# Altium integrated library TI Power Management Linear Regulator Dual Channel LDO.IntLib: 299 symbols (part 8 of 15)
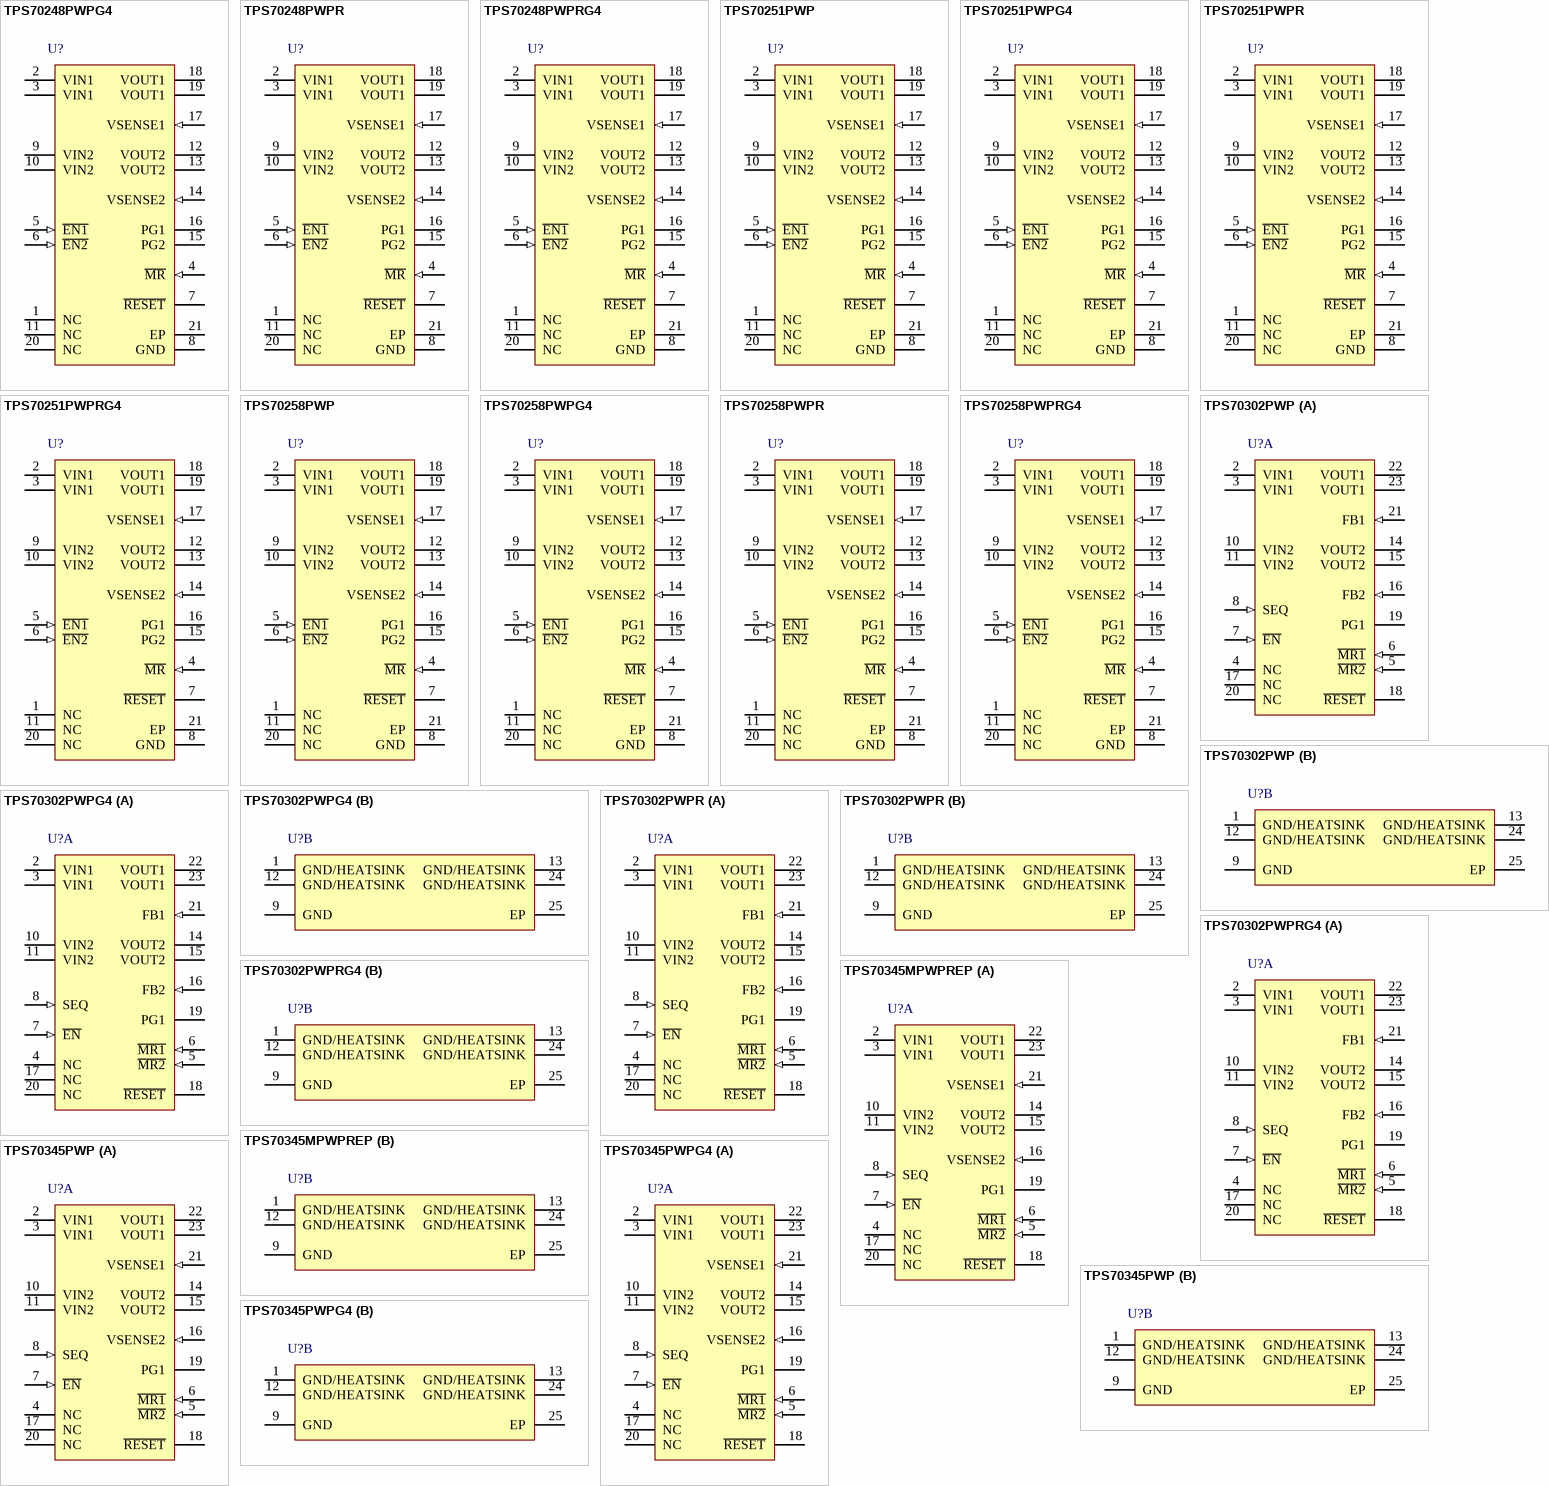
[diagram p18: symbols TPS70248PWPG4 to TPS70345PWPG4]

## TPS70345PWP
designator U?
Dual Output LDO, 1 A, Fixed 3.3, 1.2 V Output, 2.7 to 6 V Input, 24-pin HTSSOP (PWP), -40 to 125 degC, Green (RoHS & no Sb/Br); Manufacturer: Texas Instruments; PartNumber: TPS70345PWP; Iout(Max)(A): 1; Iout2(A): 2; Iq(Typ)(mA): 0.18; SubFamily: Dual Channel LDO; Vdo(Typ)(mV): 160; Vin(Max)(V): 6; Vin(Min)(V): 2.7; Vout(Max)(V): 3.3; Vout2(Max)(V): 1.2; DatasheetVersion: SLVS285H; PackageVersion: 4073225-5/I; PackageReference: PWP24-4210X2010TP; PackageDescription: 24-Pin Plastic Small Outline, Body 4.4 x 7.8 mm, Pitch 0.65 mm; Supplier 1: Digi-Key; Supplier Part Number 1: 296-8022-5-ND; Supplier 2: Newark; Supplier Part Number 2: 77C0761; Supplier 3: Mouser; Supplier Part Number 3: 595-TPS70345PWP; Eco-Plan: Green (RoHS & no Sb/Br); Fixed Output Options(V): 3.3, 1.2; Vout(Min)(V): 3.3; Vout2(Min)(V): 1.2; Mounting Technology: Surface Mount; Code_JEDEC: MO-153; ComponentLink1Description: Manufacturer URL; ComponentLink1URL: http://www.ti.com/; ComponentLink2Description: Datasheet; ComponentLink2URL: http://www.ti.com/general/docs/lit/getliterature.tsp?genericPartNumber=TPS70345&fileType=pdf; ComponentLink3Description: Package Specification; ComponentLink3URL: http://www.ti.com/litv/pdf/mpds372
footprint TI-PWP24-4210X2010TP_N (SOP, 24-Leads, Body 7.8x4.4mm, Pitch 0.65mm, Thermal Pad 4.205X2.005mm, IPC Medium Density)
footprint TI-PWP24-4210X2010TP_L (SOP, 24-Leads, Body 7.8x4.4mm, Pitch 0.65mm, Thermal Pad 4.205X2.005mm, IPC High Density)
footprint TI-PWP24-4210X2010TP_M (SOP, 24-Leads, Body 7.8x4.4mm, Pitch 0.65mm, Thermal Pad 4.205X2.005mm, IPC Low Density)
part A pins: 2 VIN1 (power) "Input voltage of regulator 1", 3 VIN1 (power) "Input voltage of regulator 1", 4 NC "No connection", 5 ~{MR2} (in) "Manual reset input 2, active low, pulled up internally", 6 ~{MR1} (in) "Manual reset input 1, active low, pulled up internally", 7 ~{EN} (in) "Active low enable", 8 SEQ (in) "Power-up sequence control: SEQ = High, VOUT2 powers up first; SEQ = Low, VOUT1 powers up first. SEQ terminal pulled up internally.", 10 VIN2 (power) "Input voltage of regulator 2", 11 VIN2 (power) "Input voltage of regulator 2", 14 VOUT2 (power) "Output voltage of regulator 2", 15 VOUT2 (power) "Output voltage of regulator 2", 16 VSENSE2 (in) "Regulator 2 output voltage sense", 17 NC "No connection", 18 ~{RESET} (hiz) "Open drain output, SVS (power-on reset) signal, active low", 19 PG1 (hiz) "Open drain output, low when VOUT1 voltage is less than 95% of the nominal regulated voltage", 20 NC "No connection", 21 VSENSE1 (in) "Regulator 1 output voltage sense", 22 VOUT1 (power) "Output voltage of regulator 1", 23 VOUT1 (power) "Output voltage of regulator 1"
part B pins: 1 GND/HEATSINK (power) "Ground/heatsink", 9 GND (power) "Regulator ground", 12 GND/HEATSINK (power) "Ground/heatsink", 13 GND/HEATSINK (power) "Ground/heatsink", 24 GND/HEATSINK (power) "Ground/heatsink", 25 EP "Exposed Thermal Pad"

## TPS70345PWPG4
designator U?
Dual Output LDO, 1 A, Fixed 3.3, 1.2 V Output, 2.7 to 6 V Input, 24-pin HTSSOP (PWP), -40 to 125 degC, Green (RoHS & no Sb/Br); Manufacturer: Texas Instruments; PartNumber: TPS70345PWPG4; Iout(Max)(A): 1; Iout2(A): 2; Iq(Typ)(mA): 0.18; SubFamily: Dual Channel LDO; Vdo(Typ)(mV): 160; Vin(Max)(V): 6; Vin(Min)(V): 2.7; Vout(Max)(V): 3.3; Vout2(Max)(V): 1.2; DatasheetVersion: SLVS285H; PackageVersion: 4073225-5/I; PackageReference: PWP24-4210X2010TP; PackageDescription: 24-Pin Plastic Small Outline, Body 4.4 x 7.8 mm, Pitch 0.65 mm; Supplier 1: Digi-Key; Supplier Part Number 1: TPS70345PWPG4-ND; Supplier 2: Newark; Supplier Part Number 2: 99K4430; Supplier 3: Mouser; Supplier Part Number 3: 595-TPS70345PWPG4; Eco-Plan: Green (RoHS & no Sb/Br); Fixed Output Options(V): 3.3, 1.2; Vout(Min)(V): 3.3; Vout2(Min)(V): 1.2; Mounting Technology: Surface Mount; Code_JEDEC: MO-153; ComponentLink1Description: Manufacturer URL; ComponentLink1URL: http://www.ti.com/; ComponentLink2Description: Datasheet; ComponentLink2URL: http://www.ti.com/general/docs/lit/getliterature.tsp?genericPartNumber=TPS70345&fileType=pdf; ComponentLink3Description: Package Specification; ComponentLink3URL: http://www.ti.com/litv/pdf/mpds372
footprint TI-PWP24-4210X2010TP_N (SOP, 24-Leads, Body 7.8x4.4mm, Pitch 0.65mm, Thermal Pad 4.205X2.005mm, IPC Medium Density)
footprint TI-PWP24-4210X2010TP_L (SOP, 24-Leads, Body 7.8x4.4mm, Pitch 0.65mm, Thermal Pad 4.205X2.005mm, IPC High Density)
footprint TI-PWP24-4210X2010TP_M (SOP, 24-Leads, Body 7.8x4.4mm, Pitch 0.65mm, Thermal Pad 4.205X2.005mm, IPC Low Density)
part A pins: 2 VIN1 (power) "Input voltage of regulator 1", 3 VIN1 (power) "Input voltage of regulator 1", 4 NC "No connection", 5 ~{MR2} (in) "Manual reset input 2, active low, pulled up internally", 6 ~{MR1} (in) "Manual reset input 1, active low, pulled up internally", 7 ~{EN} (in) "Active low enable", 8 SEQ (in) "Power-up sequence control: SEQ = High, VOUT2 powers up first; SEQ = Low, VOUT1 powers up first. SEQ terminal pulled up internally.", 10 VIN2 (power) "Input voltage of regulator 2", 11 VIN2 (power) "Input voltage of regulator 2", 14 VOUT2 (power) "Output voltage of regulator 2", 15 VOUT2 (power) "Output voltage of regulator 2", 16 VSENSE2 (in) "Regulator 2 output voltage sense", 17 NC "No connection", 18 ~{RESET} (hiz) "Open drain output, SVS (power-on reset) signal, active low", 19 PG1 (hiz) "Open drain output, low when VOUT1 voltage is less than 95% of the nominal regulated voltage", 20 NC "No connection", 21 VSENSE1 (in) "Regulator 1 output voltage sense", 22 VOUT1 (power) "Output voltage of regulator 1", 23 VOUT1 (power) "Output voltage of regulator 1"
part B pins: 1 GND/HEATSINK (power) "Ground/heatsink", 9 GND (power) "Regulator ground", 12 GND/HEATSINK (power) "Ground/heatsink", 13 GND/HEATSINK (power) "Ground/heatsink", 24 GND/HEATSINK (power) "Ground/heatsink", 25 EP "Exposed Thermal Pad"

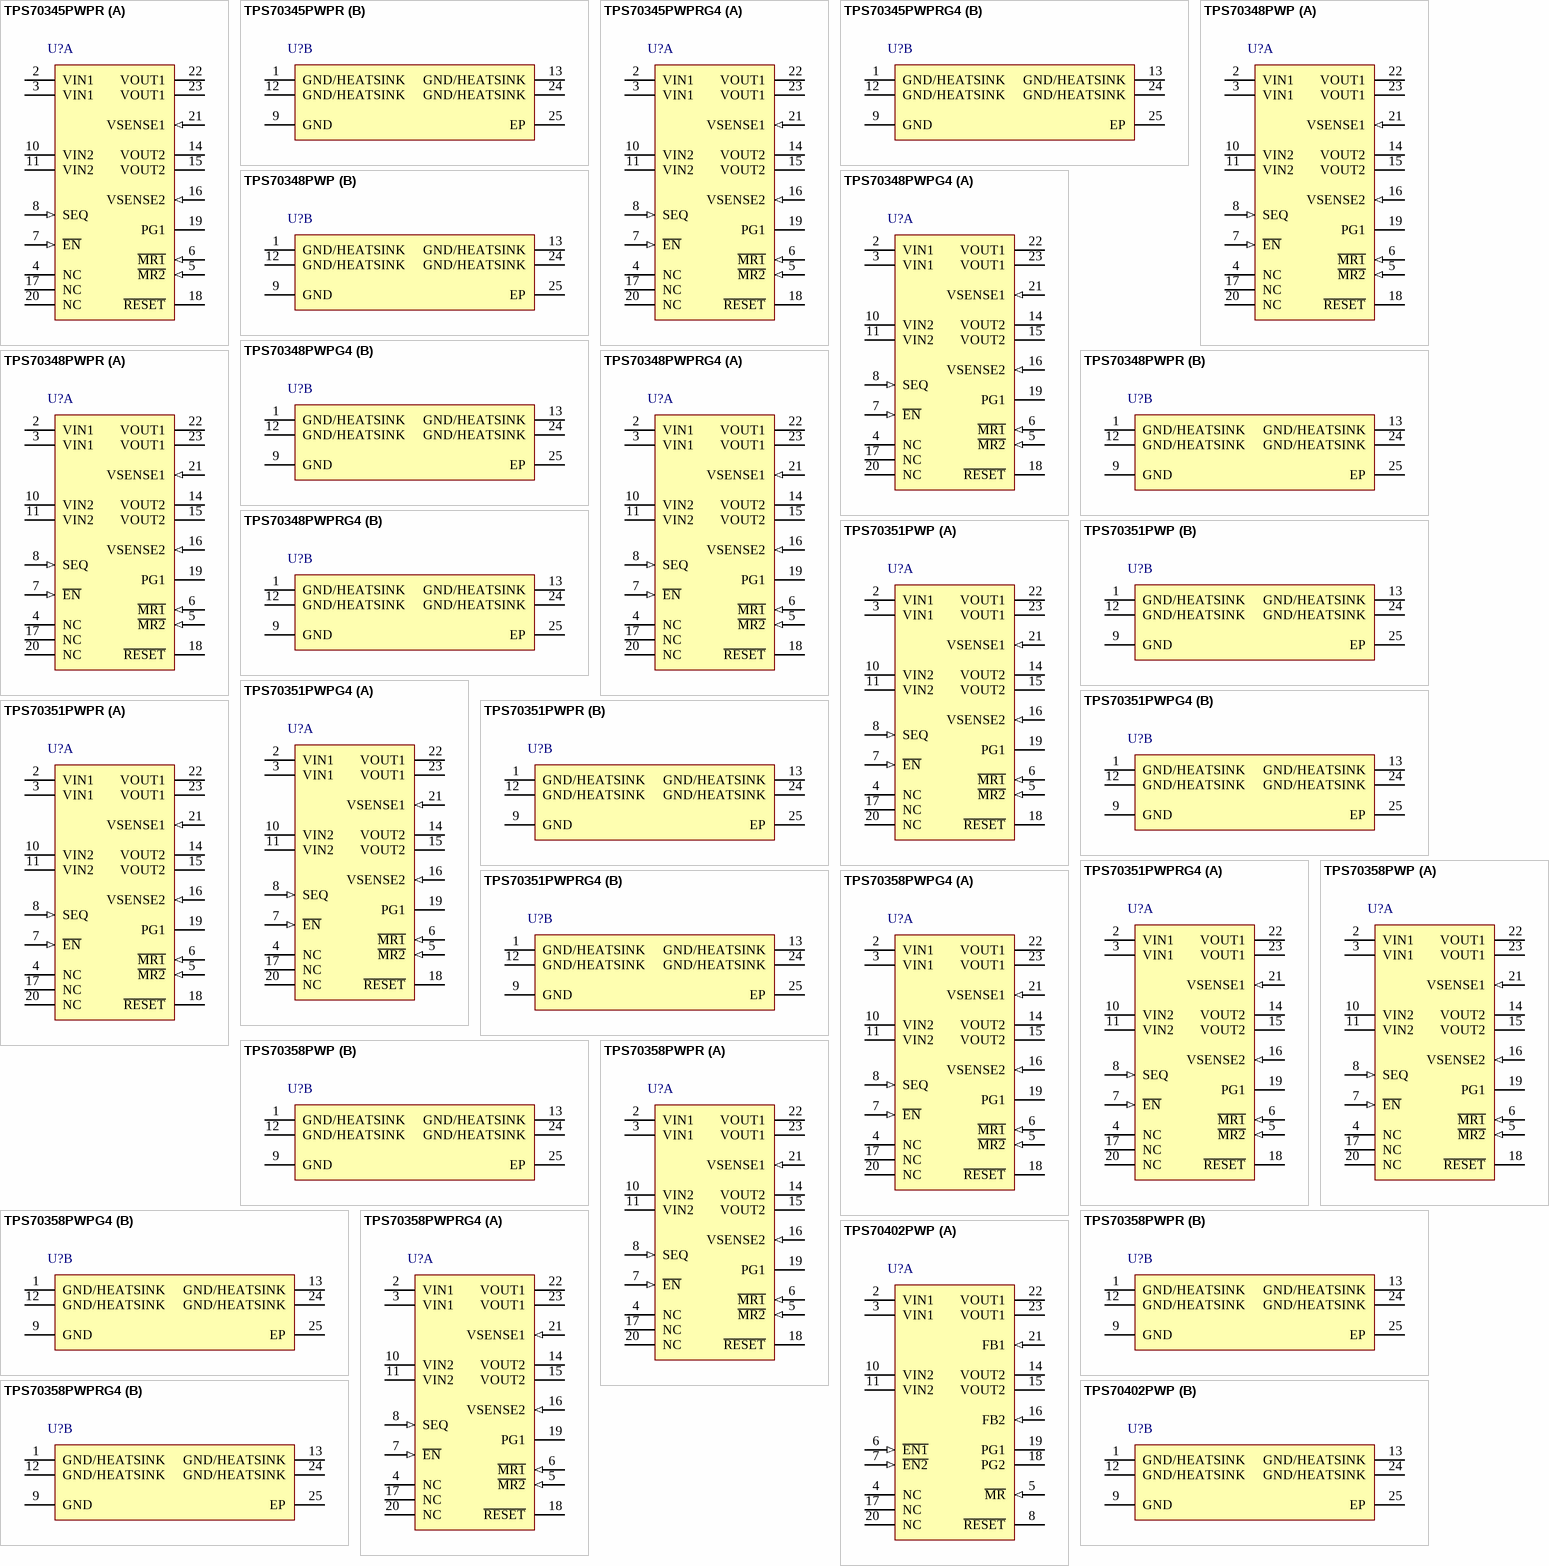
[diagram p6: symbols TPS70345PWPR to TPS70402PWP]

## TPS70345PWPR
designator U?
Dual Output LDO, 1 A, Fixed 3.3, 1.2 V Output, 2.7 to 6 V Input, 24-pin HTSSOP (PWP), -40 to 125 degC, Green (RoHS & no Sb/Br); Manufacturer: Texas Instruments; PartNumber: TPS70345PWPR; Iout(Max)(A): 1; Iout2(A): 2; Iq(Typ)(mA): 0.18; SubFamily: Dual Channel LDO; Vdo(Typ)(mV): 160; Vin(Max)(V): 6; Vin(Min)(V): 2.7; Vout(Max)(V): 3.3; Vout2(Max)(V): 1.2; DatasheetVersion: SLVS285H; PackageVersion: 4073225-5/I; PackageReference: PWP24-4210X2010TP; PackageDescription: 24-Pin Plastic Small Outline, Body 4.4 x 7.8 mm, Pitch 0.65 mm; Supplier 1: Digi-Key; Supplier Part Number 1: TPS70345PWPR-ND; Supplier 2: Mouser; Supplier Part Number 2: 595-TPS70345PWPR; Eco-Plan: Green (RoHS & no Sb/Br); Fixed Output Options(V): 3.3, 1.2; Vout(Min)(V): 3.3; Vout2(Min)(V): 1.2; Mounting Technology: Surface Mount; Code_JEDEC: MO-153; ComponentLink1Description: Manufacturer URL; ComponentLink1URL: http://www.ti.com/; ComponentLink2Description: Datasheet; ComponentLink2URL: http://www.ti.com/general/docs/lit/getliterature.tsp?genericPartNumber=TPS70345&fileType=pdf; ComponentLink3Description: Package Specification; ComponentLink3URL: http://www.ti.com/litv/pdf/mpds372
footprint TI-PWP24-4210X2010TP_N (SOP, 24-Leads, Body 7.8x4.4mm, Pitch 0.65mm, Thermal Pad 4.205X2.005mm, IPC Medium Density)
footprint TI-PWP24-4210X2010TP_L (SOP, 24-Leads, Body 7.8x4.4mm, Pitch 0.65mm, Thermal Pad 4.205X2.005mm, IPC High Density)
footprint TI-PWP24-4210X2010TP_M (SOP, 24-Leads, Body 7.8x4.4mm, Pitch 0.65mm, Thermal Pad 4.205X2.005mm, IPC Low Density)
part A pins: 2 VIN1 (power) "Input voltage of regulator 1", 3 VIN1 (power) "Input voltage of regulator 1", 4 NC "No connection", 5 ~{MR2} (in) "Manual reset input 2, active low, pulled up internally", 6 ~{MR1} (in) "Manual reset input 1, active low, pulled up internally", 7 ~{EN} (in) "Active low enable", 8 SEQ (in) "Power-up sequence control: SEQ = High, VOUT2 powers up first; SEQ = Low, VOUT1 powers up first. SEQ terminal pulled up internally.", 10 VIN2 (power) "Input voltage of regulator 2", 11 VIN2 (power) "Input voltage of regulator 2", 14 VOUT2 (power) "Output voltage of regulator 2", 15 VOUT2 (power) "Output voltage of regulator 2", 16 VSENSE2 (in) "Regulator 2 output voltage sense", 17 NC "No connection", 18 ~{RESET} (hiz) "Open drain output, SVS (power-on reset) signal, active low", 19 PG1 (hiz) "Open drain output, low when VOUT1 voltage is less than 95% of the nominal regulated voltage", 20 NC "No connection", 21 VSENSE1 (in) "Regulator 1 output voltage sense", 22 VOUT1 (power) "Output voltage of regulator 1", 23 VOUT1 (power) "Output voltage of regulator 1"
part B pins: 1 GND/HEATSINK (power) "Ground/heatsink", 9 GND (power) "Regulator ground", 12 GND/HEATSINK (power) "Ground/heatsink", 13 GND/HEATSINK (power) "Ground/heatsink", 24 GND/HEATSINK (power) "Ground/heatsink", 25 EP "Exposed Thermal Pad"

## TPS70345PWPRG4
designator U?
Dual Output LDO, 1 A, Fixed 3.3, 1.2 V Output, 2.7 to 6 V Input, 24-pin HTSSOP (PWP), -40 to 125 degC, Green (RoHS & no Sb/Br); Manufacturer: Texas Instruments; PartNumber: TPS70345PWPRG4; Iout(Max)(A): 1; Iout2(A): 2; Iq(Typ)(mA): 0.18; SubFamily: Dual Channel LDO; Vdo(Typ)(mV): 160; Vin(Max)(V): 6; Vin(Min)(V): 2.7; Vout(Max)(V): 3.3; Vout2(Max)(V): 1.2; DatasheetVersion: SLVS285H; PackageVersion: 4073225-5/I; PackageReference: PWP24-4210X2010TP; PackageDescription: 24-Pin Plastic Small Outline, Body 4.4 x 7.8 mm, Pitch 0.65 mm; Supplier 1: Digi-Key; Supplier Part Number 1: TPS70345PWPRG4-ND; Supplier 2: Mouser; Supplier Part Number 2: 595-TPS70345PWPRG4; Eco-Plan: Green (RoHS & no Sb/Br); Fixed Output Options(V): 3.3, 1.2; Vout(Min)(V): 3.3; Vout2(Min)(V): 1.2; Mounting Technology: Surface Mount; Code_JEDEC: MO-153; ComponentLink1Description: Manufacturer URL; ComponentLink1URL: http://www.ti.com/; ComponentLink2Description: Datasheet; ComponentLink2URL: http://www.ti.com/general/docs/lit/getliterature.tsp?genericPartNumber=TPS70345&fileType=pdf; ComponentLink3Description: Package Specification; ComponentLink3URL: http://www.ti.com/litv/pdf/mpds372
footprint TI-PWP24-4210X2010TP_N (SOP, 24-Leads, Body 7.8x4.4mm, Pitch 0.65mm, Thermal Pad 4.205X2.005mm, IPC Medium Density)
footprint TI-PWP24-4210X2010TP_L (SOP, 24-Leads, Body 7.8x4.4mm, Pitch 0.65mm, Thermal Pad 4.205X2.005mm, IPC High Density)
footprint TI-PWP24-4210X2010TP_M (SOP, 24-Leads, Body 7.8x4.4mm, Pitch 0.65mm, Thermal Pad 4.205X2.005mm, IPC Low Density)
part A pins: 2 VIN1 (power) "Input voltage of regulator 1", 3 VIN1 (power) "Input voltage of regulator 1", 4 NC "No connection", 5 ~{MR2} (in) "Manual reset input 2, active low, pulled up internally", 6 ~{MR1} (in) "Manual reset input 1, active low, pulled up internally", 7 ~{EN} (in) "Active low enable", 8 SEQ (in) "Power-up sequence control: SEQ = High, VOUT2 powers up first; SEQ = Low, VOUT1 powers up first. SEQ terminal pulled up internally.", 10 VIN2 (power) "Input voltage of regulator 2", 11 VIN2 (power) "Input voltage of regulator 2", 14 VOUT2 (power) "Output voltage of regulator 2", 15 VOUT2 (power) "Output voltage of regulator 2", 16 VSENSE2 (in) "Regulator 2 output voltage sense", 17 NC "No connection", 18 ~{RESET} (hiz) "Open drain output, SVS (power-on reset) signal, active low", 19 PG1 (hiz) "Open drain output, low when VOUT1 voltage is less than 95% of the nominal regulated voltage", 20 NC "No connection", 21 VSENSE1 (in) "Regulator 1 output voltage sense", 22 VOUT1 (power) "Output voltage of regulator 1", 23 VOUT1 (power) "Output voltage of regulator 1"
part B pins: 1 GND/HEATSINK (power) "Ground/heatsink", 9 GND (power) "Regulator ground", 12 GND/HEATSINK (power) "Ground/heatsink", 13 GND/HEATSINK (power) "Ground/heatsink", 24 GND/HEATSINK (power) "Ground/heatsink", 25 EP "Exposed Thermal Pad"

## TPS70348PWP
designator U?
Dual Output LDO, 1 A, Fixed 3.3, 1.5 V Output, 2.7 to 6 V Input, 24-pin HTSSOP (PWP), -40 to 125 degC, Green (RoHS & no Sb/Br); Manufacturer: Texas Instruments; PartNumber: TPS70348PWP; Iout(Max)(A): 1; Iout2(A): 2; Iq(Typ)(mA): 0.18; SubFamily: Dual Channel LDO; Vdo(Typ)(mV): 160; Vin(Max)(V): 6; Vin(Min)(V): 2.7; Vout(Max)(V): 3.3; Vout2(Max)(V): 1.5; DatasheetVersion: SLVS285H; PackageVersion: 4073225-5/I; PackageReference: PWP24-4210X2010TP; PackageDescription: 24-Pin Plastic Small Outline, Body 4.4 x 7.8 mm, Pitch 0.65 mm; Supplier 1: Digi-Key; Supplier Part Number 1: 296-8023-5-ND; Supplier 2: Newark; Supplier Part Number 2: 77C0763; Supplier 3: Mouser; Supplier Part Number 3: 595-TPS70348PWP; Eco-Plan: Green (RoHS & no Sb/Br); Fixed Output Options(V): 3.3, 1.5; Vout(Min)(V): 3.3; Vout2(Min)(V): 1.5; Mounting Technology: Surface Mount; Code_JEDEC: MO-153; ComponentLink1Description: Manufacturer URL; ComponentLink1URL: http://www.ti.com/; ComponentLink2Description: Datasheet; ComponentLink2URL: http://www.ti.com/general/docs/lit/getliterature.tsp?genericPartNumber=TPS70348&fileType=pdf; ComponentLink3Description: Package Specification; ComponentLink3URL: http://www.ti.com/litv/pdf/mpds372
footprint TI-PWP24-4210X2010TP_N (SOP, 24-Leads, Body 7.8x4.4mm, Pitch 0.65mm, Thermal Pad 4.205X2.005mm, IPC Medium Density)
footprint TI-PWP24-4210X2010TP_L (SOP, 24-Leads, Body 7.8x4.4mm, Pitch 0.65mm, Thermal Pad 4.205X2.005mm, IPC High Density)
footprint TI-PWP24-4210X2010TP_M (SOP, 24-Leads, Body 7.8x4.4mm, Pitch 0.65mm, Thermal Pad 4.205X2.005mm, IPC Low Density)
part A pins: 2 VIN1 (power) "Input voltage of regulator 1", 3 VIN1 (power) "Input voltage of regulator 1", 4 NC "No connection", 5 ~{MR2} (in) "Manual reset input 2, active low, pulled up internally", 6 ~{MR1} (in) "Manual reset input 1, active low, pulled up internally", 7 ~{EN} (in) "Active low enable", 8 SEQ (in) "Power-up sequence control: SEQ = High, VOUT2 powers up first; SEQ = Low, VOUT1 powers up first. SEQ terminal pulled up internally.", 10 VIN2 (power) "Input voltage of regulator 2", 11 VIN2 (power) "Input voltage of regulator 2", 14 VOUT2 (power) "Output voltage of regulator 2", 15 VOUT2 (power) "Output voltage of regulator 2", 16 VSENSE2 (in) "Regulator 2 output voltage sense", 17 NC "No connection", 18 ~{RESET} (hiz) "Open drain output, SVS (power-on reset) signal, active low", 19 PG1 (hiz) "Open drain output, low when VOUT1 voltage is less than 95% of the nominal regulated voltage", 20 NC "No connection", 21 VSENSE1 (in) "Regulator 1 output voltage sense", 22 VOUT1 (power) "Output voltage of regulator 1", 23 VOUT1 (power) "Output voltage of regulator 1"
part B pins: 1 GND/HEATSINK (power) "Ground/heatsink", 9 GND (power) "Regulator ground", 12 GND/HEATSINK (power) "Ground/heatsink", 13 GND/HEATSINK (power) "Ground/heatsink", 24 GND/HEATSINK (power) "Ground/heatsink", 25 EP "Exposed Thermal Pad"

## TPS70348PWPG4
designator U?
Dual Output LDO, 1 A, Fixed 3.3, 1.5 V Output, 2.7 to 6 V Input, 24-pin HTSSOP (PWP), -40 to 125 degC, Green (RoHS & no Sb/Br); Manufacturer: Texas Instruments; PartNumber: TPS70348PWPG4; Iout(Max)(A): 1; Iout2(A): 2; Iq(Typ)(mA): 0.18; SubFamily: Dual Channel LDO; Vdo(Typ)(mV): 160; Vin(Max)(V): 6; Vin(Min)(V): 2.7; Vout(Max)(V): 3.3; Vout2(Max)(V): 1.5; DatasheetVersion: SLVS285H; PackageVersion: 4073225-5/I; PackageReference: PWP24-4210X2010TP; PackageDescription: 24-Pin Plastic Small Outline, Body 4.4 x 7.8 mm, Pitch 0.65 mm; Supplier 1: Digi-Key; Supplier Part Number 1: TPS70348PWPG4-ND; Supplier 2: Mouser; Supplier Part Number 2: 595-TPS70348PWPG4; Eco-Plan: Green (RoHS & no Sb/Br); Fixed Output Options(V): 3.3, 1.5; Vout(Min)(V): 3.3; Vout2(Min)(V): 1.5; Mounting Technology: Surface Mount; Code_JEDEC: MO-153; ComponentLink1Description: Manufacturer URL; ComponentLink1URL: http://www.ti.com/; ComponentLink2Description: Datasheet; ComponentLink2URL: http://www.ti.com/general/docs/lit/getliterature.tsp?genericPartNumber=TPS70348&fileType=pdf; ComponentLink3Description: Package Specification; ComponentLink3URL: http://www.ti.com/litv/pdf/mpds372
footprint TI-PWP24-4210X2010TP_N (SOP, 24-Leads, Body 7.8x4.4mm, Pitch 0.65mm, Thermal Pad 4.205X2.005mm, IPC Medium Density)
footprint TI-PWP24-4210X2010TP_L (SOP, 24-Leads, Body 7.8x4.4mm, Pitch 0.65mm, Thermal Pad 4.205X2.005mm, IPC High Density)
footprint TI-PWP24-4210X2010TP_M (SOP, 24-Leads, Body 7.8x4.4mm, Pitch 0.65mm, Thermal Pad 4.205X2.005mm, IPC Low Density)
part A pins: 2 VIN1 (power) "Input voltage of regulator 1", 3 VIN1 (power) "Input voltage of regulator 1", 4 NC "No connection", 5 ~{MR2} (in) "Manual reset input 2, active low, pulled up internally", 6 ~{MR1} (in) "Manual reset input 1, active low, pulled up internally", 7 ~{EN} (in) "Active low enable", 8 SEQ (in) "Power-up sequence control: SEQ = High, VOUT2 powers up first; SEQ = Low, VOUT1 powers up first. SEQ terminal pulled up internally.", 10 VIN2 (power) "Input voltage of regulator 2", 11 VIN2 (power) "Input voltage of regulator 2", 14 VOUT2 (power) "Output voltage of regulator 2", 15 VOUT2 (power) "Output voltage of regulator 2", 16 VSENSE2 (in) "Regulator 2 output voltage sense", 17 NC "No connection", 18 ~{RESET} (hiz) "Open drain output, SVS (power-on reset) signal, active low", 19 PG1 (hiz) "Open drain output, low when VOUT1 voltage is less than 95% of the nominal regulated voltage", 20 NC "No connection", 21 VSENSE1 (in) "Regulator 1 output voltage sense", 22 VOUT1 (power) "Output voltage of regulator 1", 23 VOUT1 (power) "Output voltage of regulator 1"
part B pins: 1 GND/HEATSINK (power) "Ground/heatsink", 9 GND (power) "Regulator ground", 12 GND/HEATSINK (power) "Ground/heatsink", 13 GND/HEATSINK (power) "Ground/heatsink", 24 GND/HEATSINK (power) "Ground/heatsink", 25 EP "Exposed Thermal Pad"

## TPS70348PWPR
designator U?
Dual Output LDO, 1 A, Fixed 3.3, 1.5 V Output, 2.7 to 6 V Input, 24-pin HTSSOP (PWP), -40 to 125 degC, Green (RoHS & no Sb/Br); Manufacturer: Texas Instruments; PartNumber: TPS70348PWPR; Iout(Max)(A): 1; Iout2(A): 2; Iq(Typ)(mA): 0.18; SubFamily: Dual Channel LDO; Vdo(Typ)(mV): 160; Vin(Max)(V): 6; Vin(Min)(V): 2.7; Vout(Max)(V): 3.3; Vout2(Max)(V): 1.5; DatasheetVersion: SLVS285H; PackageVersion: 4073225-5/I; PackageReference: PWP24-4210X2010TP; PackageDescription: 24-Pin Plastic Small Outline, Body 4.4 x 7.8 mm, Pitch 0.65 mm; Supplier 1: Digi-Key; Supplier Part Number 1: TPS70348PWPR-ND; Supplier 2: Newark; Supplier Part Number 2: 77C0764; Supplier 3: Mouser; Supplier Part Number 3: 595-TPS70348PWPR; Eco-Plan: Green (RoHS & no Sb/Br); Fixed Output Options(V): 3.3, 1.5; Vout(Min)(V): 3.3; Vout2(Min)(V): 1.5; Mounting Technology: Surface Mount; Code_JEDEC: MO-153; ComponentLink1Description: Manufacturer URL; ComponentLink1URL: http://www.ti.com/; ComponentLink2Description: Datasheet; ComponentLink2URL: http://www.ti.com/general/docs/lit/getliterature.tsp?genericPartNumber=TPS70348&fileType=pdf; ComponentLink3Description: Package Specification; ComponentLink3URL: http://www.ti.com/litv/pdf/mpds372
footprint TI-PWP24-4210X2010TP_N (SOP, 24-Leads, Body 7.8x4.4mm, Pitch 0.65mm, Thermal Pad 4.205X2.005mm, IPC Medium Density)
footprint TI-PWP24-4210X2010TP_L (SOP, 24-Leads, Body 7.8x4.4mm, Pitch 0.65mm, Thermal Pad 4.205X2.005mm, IPC High Density)
footprint TI-PWP24-4210X2010TP_M (SOP, 24-Leads, Body 7.8x4.4mm, Pitch 0.65mm, Thermal Pad 4.205X2.005mm, IPC Low Density)
part A pins: 2 VIN1 (power) "Input voltage of regulator 1", 3 VIN1 (power) "Input voltage of regulator 1", 4 NC "No connection", 5 ~{MR2} (in) "Manual reset input 2, active low, pulled up internally", 6 ~{MR1} (in) "Manual reset input 1, active low, pulled up internally", 7 ~{EN} (in) "Active low enable", 8 SEQ (in) "Power-up sequence control: SEQ = High, VOUT2 powers up first; SEQ = Low, VOUT1 powers up first. SEQ terminal pulled up internally.", 10 VIN2 (power) "Input voltage of regulator 2", 11 VIN2 (power) "Input voltage of regulator 2", 14 VOUT2 (power) "Output voltage of regulator 2", 15 VOUT2 (power) "Output voltage of regulator 2", 16 VSENSE2 (in) "Regulator 2 output voltage sense", 17 NC "No connection", 18 ~{RESET} (hiz) "Open drain output, SVS (power-on reset) signal, active low", 19 PG1 (hiz) "Open drain output, low when VOUT1 voltage is less than 95% of the nominal regulated voltage", 20 NC "No connection", 21 VSENSE1 (in) "Regulator 1 output voltage sense", 22 VOUT1 (power) "Output voltage of regulator 1", 23 VOUT1 (power) "Output voltage of regulator 1"
part B pins: 1 GND/HEATSINK (power) "Ground/heatsink", 9 GND (power) "Regulator ground", 12 GND/HEATSINK (power) "Ground/heatsink", 13 GND/HEATSINK (power) "Ground/heatsink", 24 GND/HEATSINK (power) "Ground/heatsink", 25 EP "Exposed Thermal Pad"

## TPS70348PWPRG4
designator U?
Dual Output LDO, 1 A, Fixed 3.3, 1.5 V Output, 2.7 to 6 V Input, 24-pin HTSSOP (PWP), -40 to 125 degC, Green (RoHS & no Sb/Br); Manufacturer: Texas Instruments; PartNumber: TPS70348PWPRG4; Iout(Max)(A): 1; Iout2(A): 2; Iq(Typ)(mA): 0.18; SubFamily: Dual Channel LDO; Vdo(Typ)(mV): 160; Vin(Max)(V): 6; Vin(Min)(V): 2.7; Vout(Max)(V): 3.3; Vout2(Max)(V): 1.5; DatasheetVersion: SLVS285H; PackageVersion: 4073225-5/I; PackageReference: PWP24-4210X2010TP; PackageDescription: 24-Pin Plastic Small Outline, Body 4.4 x 7.8 mm, Pitch 0.65 mm; Supplier 1: Digi-Key; Supplier Part Number 1: TPS70348PWPRG4-ND; Supplier 2: Mouser; Supplier Part Number 2: 595-TPS70348PWPRG4; Eco-Plan: Green (RoHS & no Sb/Br); Fixed Output Options(V): 3.3, 1.5; Vout(Min)(V): 3.3; Vout2(Min)(V): 1.5; Mounting Technology: Surface Mount; Code_JEDEC: MO-153; ComponentLink1Description: Manufacturer URL; ComponentLink1URL: http://www.ti.com/; ComponentLink2Description: Datasheet; ComponentLink2URL: http://www.ti.com/general/docs/lit/getliterature.tsp?genericPartNumber=TPS70348&fileType=pdf; ComponentLink3Description: Package Specification; ComponentLink3URL: http://www.ti.com/litv/pdf/mpds372
footprint TI-PWP24-4210X2010TP_N (SOP, 24-Leads, Body 7.8x4.4mm, Pitch 0.65mm, Thermal Pad 4.205X2.005mm, IPC Medium Density)
footprint TI-PWP24-4210X2010TP_L (SOP, 24-Leads, Body 7.8x4.4mm, Pitch 0.65mm, Thermal Pad 4.205X2.005mm, IPC High Density)
footprint TI-PWP24-4210X2010TP_M (SOP, 24-Leads, Body 7.8x4.4mm, Pitch 0.65mm, Thermal Pad 4.205X2.005mm, IPC Low Density)
part A pins: 2 VIN1 (power) "Input voltage of regulator 1", 3 VIN1 (power) "Input voltage of regulator 1", 4 NC "No connection", 5 ~{MR2} (in) "Manual reset input 2, active low, pulled up internally", 6 ~{MR1} (in) "Manual reset input 1, active low, pulled up internally", 7 ~{EN} (in) "Active low enable", 8 SEQ (in) "Power-up sequence control: SEQ = High, VOUT2 powers up first; SEQ = Low, VOUT1 powers up first. SEQ terminal pulled up internally.", 10 VIN2 (power) "Input voltage of regulator 2", 11 VIN2 (power) "Input voltage of regulator 2", 14 VOUT2 (power) "Output voltage of regulator 2", 15 VOUT2 (power) "Output voltage of regulator 2", 16 VSENSE2 (in) "Regulator 2 output voltage sense", 17 NC "No connection", 18 ~{RESET} (hiz) "Open drain output, SVS (power-on reset) signal, active low", 19 PG1 (hiz) "Open drain output, low when VOUT1 voltage is less than 95% of the nominal regulated voltage", 20 NC "No connection", 21 VSENSE1 (in) "Regulator 1 output voltage sense", 22 VOUT1 (power) "Output voltage of regulator 1", 23 VOUT1 (power) "Output voltage of regulator 1"
part B pins: 1 GND/HEATSINK (power) "Ground/heatsink", 9 GND (power) "Regulator ground", 12 GND/HEATSINK (power) "Ground/heatsink", 13 GND/HEATSINK (power) "Ground/heatsink", 24 GND/HEATSINK (power) "Ground/heatsink", 25 EP "Exposed Thermal Pad"

## TPS70351PWP
designator U?
Dual Output LDO, 1 A, Fixed 3.3, 1.8 V Output, 2.7 to 6 V Input, 24-pin HTSSOP (PWP), -40 to 125 degC, Green (RoHS & no Sb/Br); Manufacturer: Texas Instruments; PartNumber: TPS70351PWP; Iout(Max)(A): 1; Iout2(A): 2; Iq(Typ)(mA): 0.18; SubFamily: Dual Channel LDO; Vdo(Typ)(mV): 160; Vin(Max)(V): 6; Vin(Min)(V): 2.7; Vout(Max)(V): 3.3; Vout2(Max)(V): 1.8; DatasheetVersion: SLVS285H; PackageVersion: 4073225-5/I; PackageReference: PWP24-4210X2010TP; PackageDescription: 24-Pin Plastic Small Outline, Body 4.4 x 7.8 mm, Pitch 0.65 mm; Supplier 1: Digi-Key; Supplier Part Number 1: 296-8024-5-ND; Supplier 2: Farnell; Supplier Part Number 2: 1470476; Supplier 3: Newark; Supplier Part Number 3: 77C0766; Supplier 4: Mouser; Supplier Part Number 4: 595-TPS70351PWP; Eco-Plan: Green (RoHS & no Sb/Br); Fixed Output Options(V): 3.3, 1.8; Vout(Min)(V): 3.3; Vout2(Min)(V): 1.8; Mounting Technology: Surface Mount; Code_JEDEC: MO-153; ComponentLink1Description: Manufacturer URL; ComponentLink1URL: http://www.ti.com/; ComponentLink2Description: Datasheet; ComponentLink2URL: http://www.ti.com/general/docs/lit/getliterature.tsp?genericPartNumber=TPS70351&fileType=pdf; ComponentLink3Description: Package Specification; ComponentLink3URL: http://www.ti.com/litv/pdf/mpds372
footprint TI-PWP24-4210X2010TP_N (SOP, 24-Leads, Body 7.8x4.4mm, Pitch 0.65mm, Thermal Pad 4.205X2.005mm, IPC Medium Density)
footprint TI-PWP24-4210X2010TP_L (SOP, 24-Leads, Body 7.8x4.4mm, Pitch 0.65mm, Thermal Pad 4.205X2.005mm, IPC High Density)
footprint TI-PWP24-4210X2010TP_M (SOP, 24-Leads, Body 7.8x4.4mm, Pitch 0.65mm, Thermal Pad 4.205X2.005mm, IPC Low Density)
part A pins: 2 VIN1 (power) "Input voltage of regulator 1", 3 VIN1 (power) "Input voltage of regulator 1", 4 NC "No connection", 5 ~{MR2} (in) "Manual reset input 2, active low, pulled up internally", 6 ~{MR1} (in) "Manual reset input 1, active low, pulled up internally", 7 ~{EN} (in) "Active low enable", 8 SEQ (in) "Power-up sequence control: SEQ = High, VOUT2 powers up first; SEQ = Low, VOUT1 powers up first. SEQ terminal pulled up internally.", 10 VIN2 (power) "Input voltage of regulator 2", 11 VIN2 (power) "Input voltage of regulator 2", 14 VOUT2 (power) "Output voltage of regulator 2", 15 VOUT2 (power) "Output voltage of regulator 2", 16 VSENSE2 (in) "Regulator 2 output voltage sense", 17 NC "No connection", 18 ~{RESET} (hiz) "Open drain output, SVS (power-on reset) signal, active low", 19 PG1 (hiz) "Open drain output, low when VOUT1 voltage is less than 95% of the nominal regulated voltage", 20 NC "No connection", 21 VSENSE1 (in) "Regulator 1 output voltage sense", 22 VOUT1 (power) "Output voltage of regulator 1", 23 VOUT1 (power) "Output voltage of regulator 1"
part B pins: 1 GND/HEATSINK (power) "Ground/heatsink", 9 GND (power) "Regulator ground", 12 GND/HEATSINK (power) "Ground/heatsink", 13 GND/HEATSINK (power) "Ground/heatsink", 24 GND/HEATSINK (power) "Ground/heatsink", 25 EP "Exposed Thermal Pad"

## TPS70351PWPG4
designator U?
Dual Output LDO, 1 A, Fixed 3.3, 1.8 V Output, 2.7 to 6 V Input, 24-pin HTSSOP (PWP), -40 to 125 degC, Green (RoHS & no Sb/Br); Manufacturer: Texas Instruments; PartNumber: TPS70351PWPG4; Iout(Max)(A): 1; Iout2(A): 2; Iq(Typ)(mA): 0.18; SubFamily: Dual Channel LDO; Vdo(Typ)(mV): 160; Vin(Max)(V): 6; Vin(Min)(V): 2.7; Vout(Max)(V): 3.3; Vout2(Max)(V): 1.8; DatasheetVersion: SLVS285H; PackageVersion: 4073225-5/I; PackageReference: PWP24-4210X2010TP; PackageDescription: 24-Pin Plastic Small Outline, Body 4.4 x 7.8 mm, Pitch 0.65 mm; Supplier 1: Digi-Key; Supplier Part Number 1: TPS70351PWPG4-ND; Supplier 2: Farnell; Supplier Part Number 2: 1234809; Supplier 3: Newark; Supplier Part Number 3: 13M3298; Supplier 4: Newark; Supplier Part Number 4: 58K6955; Supplier 5: Mouser; Supplier Part Number 5: 595-TPS70351PWPG4; Eco-Plan: Green (RoHS & no Sb/Br); Fixed Output Options(V): 3.3, 1.8; Vout(Min)(V): 3.3; Vout2(Min)(V): 1.8; Mounting Technology: Surface Mount; Code_JEDEC: MO-153; ComponentLink1Description: Manufacturer URL; ComponentLink1URL: http://www.ti.com/; ComponentLink2Description: Datasheet; ComponentLink2URL: http://www.ti.com/general/docs/lit/getliterature.tsp?genericPartNumber=TPS70351&fileType=pdf; ComponentLink3Description: Package Specification; ComponentLink3URL: http://www.ti.com/litv/pdf/mpds372
footprint TI-PWP24-4210X2010TP_N (SOP, 24-Leads, Body 7.8x4.4mm, Pitch 0.65mm, Thermal Pad 4.205X2.005mm, IPC Medium Density)
footprint TI-PWP24-4210X2010TP_L (SOP, 24-Leads, Body 7.8x4.4mm, Pitch 0.65mm, Thermal Pad 4.205X2.005mm, IPC High Density)
footprint TI-PWP24-4210X2010TP_M (SOP, 24-Leads, Body 7.8x4.4mm, Pitch 0.65mm, Thermal Pad 4.205X2.005mm, IPC Low Density)
part A pins: 2 VIN1 (power) "Input voltage of regulator 1", 3 VIN1 (power) "Input voltage of regulator 1", 4 NC "No connection", 5 ~{MR2} (in) "Manual reset input 2, active low, pulled up internally", 6 ~{MR1} (in) "Manual reset input 1, active low, pulled up internally", 7 ~{EN} (in) "Active low enable", 8 SEQ (in) "Power-up sequence control: SEQ = High, VOUT2 powers up first; SEQ = Low, VOUT1 powers up first. SEQ terminal pulled up internally.", 10 VIN2 (power) "Input voltage of regulator 2", 11 VIN2 (power) "Input voltage of regulator 2", 14 VOUT2 (power) "Output voltage of regulator 2", 15 VOUT2 (power) "Output voltage of regulator 2", 16 VSENSE2 (in) "Regulator 2 output voltage sense", 17 NC "No connection", 18 ~{RESET} (hiz) "Open drain output, SVS (power-on reset) signal, active low", 19 PG1 (hiz) "Open drain output, low when VOUT1 voltage is less than 95% of the nominal regulated voltage", 20 NC "No connection", 21 VSENSE1 (in) "Regulator 1 output voltage sense", 22 VOUT1 (power) "Output voltage of regulator 1", 23 VOUT1 (power) "Output voltage of regulator 1"
part B pins: 1 GND/HEATSINK (power) "Ground/heatsink", 9 GND (power) "Regulator ground", 12 GND/HEATSINK (power) "Ground/heatsink", 13 GND/HEATSINK (power) "Ground/heatsink", 24 GND/HEATSINK (power) "Ground/heatsink", 25 EP "Exposed Thermal Pad"

## TPS70351PWPR
designator U?
Dual Output LDO, 1 A, Fixed 3.3, 1.8 V Output, 2.7 to 6 V Input, 24-pin HTSSOP (PWP), -40 to 125 degC, Green (RoHS & no Sb/Br); Manufacturer: Texas Instruments; PartNumber: TPS70351PWPR; Iout(Max)(A): 1; Iout2(A): 2; Iq(Typ)(mA): 0.18; SubFamily: Dual Channel LDO; Vdo(Typ)(mV): 160; Vin(Max)(V): 6; Vin(Min)(V): 2.7; Vout(Max)(V): 3.3; Vout2(Max)(V): 1.8; DatasheetVersion: SLVS285H; PackageVersion: 4073225-5/I; PackageReference: PWP24-4210X2010TP; PackageDescription: 24-Pin Plastic Small Outline, Body 4.4 x 7.8 mm, Pitch 0.65 mm; Supplier 1: Digi-Key; Supplier Part Number 1: TPS70351PWPR-ND; Supplier 2: Mouser; Supplier Part Number 2: 595-TPS70351PWPR; Eco-Plan: Green (RoHS & no Sb/Br); Fixed Output Options(V): 3.3, 1.8; Vout(Min)(V): 3.3; Vout2(Min)(V): 1.8; Mounting Technology: Surface Mount; Code_JEDEC: MO-153; ComponentLink1Description: Manufacturer URL; ComponentLink1URL: http://www.ti.com/; ComponentLink2Description: Datasheet; ComponentLink2URL: http://www.ti.com/general/docs/lit/getliterature.tsp?genericPartNumber=TPS70351&fileType=pdf; ComponentLink3Description: Package Specification; ComponentLink3URL: http://www.ti.com/litv/pdf/mpds372
footprint TI-PWP24-4210X2010TP_N (SOP, 24-Leads, Body 7.8x4.4mm, Pitch 0.65mm, Thermal Pad 4.205X2.005mm, IPC Medium Density)
footprint TI-PWP24-4210X2010TP_L (SOP, 24-Leads, Body 7.8x4.4mm, Pitch 0.65mm, Thermal Pad 4.205X2.005mm, IPC High Density)
footprint TI-PWP24-4210X2010TP_M (SOP, 24-Leads, Body 7.8x4.4mm, Pitch 0.65mm, Thermal Pad 4.205X2.005mm, IPC Low Density)
part A pins: 2 VIN1 (power) "Input voltage of regulator 1", 3 VIN1 (power) "Input voltage of regulator 1", 4 NC "No connection", 5 ~{MR2} (in) "Manual reset input 2, active low, pulled up internally", 6 ~{MR1} (in) "Manual reset input 1, active low, pulled up internally", 7 ~{EN} (in) "Active low enable", 8 SEQ (in) "Power-up sequence control: SEQ = High, VOUT2 powers up first; SEQ = Low, VOUT1 powers up first. SEQ terminal pulled up internally.", 10 VIN2 (power) "Input voltage of regulator 2", 11 VIN2 (power) "Input voltage of regulator 2", 14 VOUT2 (power) "Output voltage of regulator 2", 15 VOUT2 (power) "Output voltage of regulator 2", 16 VSENSE2 (in) "Regulator 2 output voltage sense", 17 NC "No connection", 18 ~{RESET} (hiz) "Open drain output, SVS (power-on reset) signal, active low", 19 PG1 (hiz) "Open drain output, low when VOUT1 voltage is less than 95% of the nominal regulated voltage", 20 NC "No connection", 21 VSENSE1 (in) "Regulator 1 output voltage sense", 22 VOUT1 (power) "Output voltage of regulator 1", 23 VOUT1 (power) "Output voltage of regulator 1"
part B pins: 1 GND/HEATSINK (power) "Ground/heatsink", 9 GND (power) "Regulator ground", 12 GND/HEATSINK (power) "Ground/heatsink", 13 GND/HEATSINK (power) "Ground/heatsink", 24 GND/HEATSINK (power) "Ground/heatsink", 25 EP "Exposed Thermal Pad"

## TPS70351PWPRG4
designator U?
Dual Output LDO, 1 A, Fixed 3.3, 1.8 V Output, 2.7 to 6 V Input, 24-pin HTSSOP (PWP), -40 to 125 degC, Green (RoHS & no Sb/Br); Manufacturer: Texas Instruments; PartNumber: TPS70351PWPRG4; Iout(Max)(A): 1; Iout2(A): 2; Iq(Typ)(mA): 0.18; SubFamily: Dual Channel LDO; Vdo(Typ)(mV): 160; Vin(Max)(V): 6; Vin(Min)(V): 2.7; Vout(Max)(V): 3.3; Vout2(Max)(V): 1.8; DatasheetVersion: SLVS285H; PackageVersion: 4073225-5/I; PackageReference: PWP24-4210X2010TP; PackageDescription: 24-Pin Plastic Small Outline, Body 4.4 x 7.8 mm, Pitch 0.65 mm; Supplier 1: Digi-Key; Supplier Part Number 1: TPS70351PWPRG4-ND; Supplier 2: Mouser; Supplier Part Number 2: 595-TPS70351PWPRG4; Eco-Plan: Green (RoHS & no Sb/Br); Fixed Output Options(V): 3.3, 1.8; Vout(Min)(V): 3.3; Vout2(Min)(V): 1.8; Mounting Technology: Surface Mount; Code_JEDEC: MO-153; ComponentLink1Description: Manufacturer URL; ComponentLink1URL: http://www.ti.com/; ComponentLink2Description: Datasheet; ComponentLink2URL: http://www.ti.com/general/docs/lit/getliterature.tsp?genericPartNumber=TPS70351&fileType=pdf; ComponentLink3Description: Package Specification; ComponentLink3URL: http://www.ti.com/litv/pdf/mpds372
footprint TI-PWP24-4210X2010TP_N (SOP, 24-Leads, Body 7.8x4.4mm, Pitch 0.65mm, Thermal Pad 4.205X2.005mm, IPC Medium Density)
footprint TI-PWP24-4210X2010TP_L (SOP, 24-Leads, Body 7.8x4.4mm, Pitch 0.65mm, Thermal Pad 4.205X2.005mm, IPC High Density)
footprint TI-PWP24-4210X2010TP_M (SOP, 24-Leads, Body 7.8x4.4mm, Pitch 0.65mm, Thermal Pad 4.205X2.005mm, IPC Low Density)
part A pins: 2 VIN1 (power) "Input voltage of regulator 1", 3 VIN1 (power) "Input voltage of regulator 1", 4 NC "No connection", 5 ~{MR2} (in) "Manual reset input 2, active low, pulled up internally", 6 ~{MR1} (in) "Manual reset input 1, active low, pulled up internally", 7 ~{EN} (in) "Active low enable", 8 SEQ (in) "Power-up sequence control: SEQ = High, VOUT2 powers up first; SEQ = Low, VOUT1 powers up first. SEQ terminal pulled up internally.", 10 VIN2 (power) "Input voltage of regulator 2", 11 VIN2 (power) "Input voltage of regulator 2", 14 VOUT2 (power) "Output voltage of regulator 2", 15 VOUT2 (power) "Output voltage of regulator 2", 16 VSENSE2 (in) "Regulator 2 output voltage sense", 17 NC "No connection", 18 ~{RESET} (hiz) "Open drain output, SVS (power-on reset) signal, active low", 19 PG1 (hiz) "Open drain output, low when VOUT1 voltage is less than 95% of the nominal regulated voltage", 20 NC "No connection", 21 VSENSE1 (in) "Regulator 1 output voltage sense", 22 VOUT1 (power) "Output voltage of regulator 1", 23 VOUT1 (power) "Output voltage of regulator 1"
part B pins: 1 GND/HEATSINK (power) "Ground/heatsink", 9 GND (power) "Regulator ground", 12 GND/HEATSINK (power) "Ground/heatsink", 13 GND/HEATSINK (power) "Ground/heatsink", 24 GND/HEATSINK (power) "Ground/heatsink", 25 EP "Exposed Thermal Pad"

## TPS70358PWP
designator U?
Dual Output LDO, 1 A, Fixed 3.3, 2.5 V Output, 2.7 to 6 V Input, 24-pin HTSSOP (PWP), -40 to 125 degC, Green (RoHS & no Sb/Br); Manufacturer: Texas Instruments; PartNumber: TPS70358PWP; Iout(Max)(A): 1; Iout2(A): 2; Iq(Typ)(mA): 0.18; SubFamily: Dual Channel LDO; Vdo(Typ)(mV): 160; Vin(Max)(V): 6; Vin(Min)(V): 2.7; Vout(Max)(V): 3.3; Vout2(Max)(V): 2.5; DatasheetVersion: SLVS285H; PackageVersion: 4073225-5/I; PackageReference: PWP24-4210X2010TP; PackageDescription: 24-Pin Plastic Small Outline, Body 4.4 x 7.8 mm, Pitch 0.65 mm; Supplier 1: Digi-Key; Supplier Part Number 1: 296-8025-5-ND; Supplier 2: Farnell; Supplier Part Number 2: 1461066; Supplier 3: Newark; Supplier Part Number 3: 77C0768; Supplier 4: Mouser; Supplier Part Number 4: 595-TPS70358PWP; Eco-Plan: Green (RoHS & no Sb/Br); Fixed Output Options(V): 3.3, 2.5; Vout(Min)(V): 3.3; Vout2(Min)(V): 2.5; Mounting Technology: Surface Mount; Code_JEDEC: MO-153; ComponentLink1Description: Manufacturer URL; ComponentLink1URL: http://www.ti.com/; ComponentLink2Description: Datasheet; ComponentLink2URL: http://www.ti.com/general/docs/lit/getliterature.tsp?genericPartNumber=TPS70358&fileType=pdf; ComponentLink3Description: Package Specification; ComponentLink3URL: http://www.ti.com/litv/pdf/mpds372
footprint TI-PWP24-4210X2010TP_N (SOP, 24-Leads, Body 7.8x4.4mm, Pitch 0.65mm, Thermal Pad 4.205X2.005mm, IPC Medium Density)
footprint TI-PWP24-4210X2010TP_L (SOP, 24-Leads, Body 7.8x4.4mm, Pitch 0.65mm, Thermal Pad 4.205X2.005mm, IPC High Density)
footprint TI-PWP24-4210X2010TP_M (SOP, 24-Leads, Body 7.8x4.4mm, Pitch 0.65mm, Thermal Pad 4.205X2.005mm, IPC Low Density)
part A pins: 2 VIN1 (power) "Input voltage of regulator 1", 3 VIN1 (power) "Input voltage of regulator 1", 4 NC "No connection", 5 ~{MR2} (in) "Manual reset input 2, active low, pulled up internally", 6 ~{MR1} (in) "Manual reset input 1, active low, pulled up internally", 7 ~{EN} (in) "Active low enable", 8 SEQ (in) "Power-up sequence control: SEQ = High, VOUT2 powers up first; SEQ = Low, VOUT1 powers up first. SEQ terminal pulled up internally.", 10 VIN2 (power) "Input voltage of regulator 2", 11 VIN2 (power) "Input voltage of regulator 2", 14 VOUT2 (power) "Output voltage of regulator 2", 15 VOUT2 (power) "Output voltage of regulator 2", 16 VSENSE2 (in) "Regulator 2 output voltage sense", 17 NC "No connection", 18 ~{RESET} (hiz) "Open drain output, SVS (power-on reset) signal, active low", 19 PG1 (hiz) "Open drain output, low when VOUT1 voltage is less than 95% of the nominal regulated voltage", 20 NC "No connection", 21 VSENSE1 (in) "Regulator 1 output voltage sense", 22 VOUT1 (power) "Output voltage of regulator 1", 23 VOUT1 (power) "Output voltage of regulator 1"
part B pins: 1 GND/HEATSINK (power) "Ground/heatsink", 9 GND (power) "Regulator ground", 12 GND/HEATSINK (power) "Ground/heatsink", 13 GND/HEATSINK (power) "Ground/heatsink", 24 GND/HEATSINK (power) "Ground/heatsink", 25 EP "Exposed Thermal Pad"

## TPS70358PWPG4
designator U?
Dual Output LDO, 1 A, Fixed 3.3, 2.5 V Output, 2.7 to 6 V Input, 24-pin HTSSOP (PWP), -40 to 125 degC, Green (RoHS & no Sb/Br); Manufacturer: Texas Instruments; PartNumber: TPS70358PWPG4; Iout(Max)(A): 1; Iout2(A): 2; Iq(Typ)(mA): 0.18; SubFamily: Dual Channel LDO; Vdo(Typ)(mV): 160; Vin(Max)(V): 6; Vin(Min)(V): 2.7; Vout(Max)(V): 3.3; Vout2(Max)(V): 2.5; DatasheetVersion: SLVS285H; PackageVersion: 4073225-5/I; PackageReference: PWP24-4210X2010TP; PackageDescription: 24-Pin Plastic Small Outline, Body 4.4 x 7.8 mm, Pitch 0.65 mm; Supplier 1: Digi-Key; Supplier Part Number 1: TPS70358PWPG4-ND; Supplier 2: Mouser; Supplier Part Number 2: 595-TPS70358PWPG4; Eco-Plan: Green (RoHS & no Sb/Br); Fixed Output Options(V): 3.3, 2.5; Vout(Min)(V): 3.3; Vout2(Min)(V): 2.5; Mounting Technology: Surface Mount; Code_JEDEC: MO-153; ComponentLink1Description: Manufacturer URL; ComponentLink1URL: http://www.ti.com/; ComponentLink2Description: Datasheet; ComponentLink2URL: http://www.ti.com/general/docs/lit/getliterature.tsp?genericPartNumber=TPS70358&fileType=pdf; ComponentLink3Description: Package Specification; ComponentLink3URL: http://www.ti.com/litv/pdf/mpds372
footprint TI-PWP24-4210X2010TP_N (SOP, 24-Leads, Body 7.8x4.4mm, Pitch 0.65mm, Thermal Pad 4.205X2.005mm, IPC Medium Density)
footprint TI-PWP24-4210X2010TP_L (SOP, 24-Leads, Body 7.8x4.4mm, Pitch 0.65mm, Thermal Pad 4.205X2.005mm, IPC High Density)
footprint TI-PWP24-4210X2010TP_M (SOP, 24-Leads, Body 7.8x4.4mm, Pitch 0.65mm, Thermal Pad 4.205X2.005mm, IPC Low Density)
part A pins: 2 VIN1 (power) "Input voltage of regulator 1", 3 VIN1 (power) "Input voltage of regulator 1", 4 NC "No connection", 5 ~{MR2} (in) "Manual reset input 2, active low, pulled up internally", 6 ~{MR1} (in) "Manual reset input 1, active low, pulled up internally", 7 ~{EN} (in) "Active low enable", 8 SEQ (in) "Power-up sequence control: SEQ = High, VOUT2 powers up first; SEQ = Low, VOUT1 powers up first. SEQ terminal pulled up internally.", 10 VIN2 (power) "Input voltage of regulator 2", 11 VIN2 (power) "Input voltage of regulator 2", 14 VOUT2 (power) "Output voltage of regulator 2", 15 VOUT2 (power) "Output voltage of regulator 2", 16 VSENSE2 (in) "Regulator 2 output voltage sense", 17 NC "No connection", 18 ~{RESET} (hiz) "Open drain output, SVS (power-on reset) signal, active low", 19 PG1 (hiz) "Open drain output, low when VOUT1 voltage is less than 95% of the nominal regulated voltage", 20 NC "No connection", 21 VSENSE1 (in) "Regulator 1 output voltage sense", 22 VOUT1 (power) "Output voltage of regulator 1", 23 VOUT1 (power) "Output voltage of regulator 1"
part B pins: 1 GND/HEATSINK (power) "Ground/heatsink", 9 GND (power) "Regulator ground", 12 GND/HEATSINK (power) "Ground/heatsink", 13 GND/HEATSINK (power) "Ground/heatsink", 24 GND/HEATSINK (power) "Ground/heatsink", 25 EP "Exposed Thermal Pad"

## TPS70358PWPR
designator U?
Dual Output LDO, 1 A, Fixed 3.3, 2.5 V Output, 2.7 to 6 V Input, 24-pin HTSSOP (PWP), -40 to 125 degC, Green (RoHS & no Sb/Br); Manufacturer: Texas Instruments; PartNumber: TPS70358PWPR; Iout(Max)(A): 1; Iout2(A): 2; Iq(Typ)(mA): 0.18; SubFamily: Dual Channel LDO; Vdo(Typ)(mV): 160; Vin(Max)(V): 6; Vin(Min)(V): 2.7; Vout(Max)(V): 3.3; Vout2(Max)(V): 2.5; DatasheetVersion: SLVS285H; PackageVersion: 4073225-5/I; PackageReference: PWP24-4210X2010TP; PackageDescription: 24-Pin Plastic Small Outline, Body 4.4 x 7.8 mm, Pitch 0.65 mm; Supplier 1: Digi-Key; Supplier Part Number 1: TPS70358PWPR-ND; Supplier 2: Mouser; Supplier Part Number 2: 595-TPS70358PWPR; Eco-Plan: Green (RoHS & no Sb/Br); Fixed Output Options(V): 3.3, 2.5; Vout(Min)(V): 3.3; Vout2(Min)(V): 2.5; Mounting Technology: Surface Mount; Code_JEDEC: MO-153; ComponentLink1Description: Manufacturer URL; ComponentLink1URL: http://www.ti.com/; ComponentLink2Description: Datasheet; ComponentLink2URL: http://www.ti.com/general/docs/lit/getliterature.tsp?genericPartNumber=TPS70358&fileType=pdf; ComponentLink3Description: Package Specification; ComponentLink3URL: http://www.ti.com/litv/pdf/mpds372
footprint TI-PWP24-4210X2010TP_N (SOP, 24-Leads, Body 7.8x4.4mm, Pitch 0.65mm, Thermal Pad 4.205X2.005mm, IPC Medium Density)
footprint TI-PWP24-4210X2010TP_L (SOP, 24-Leads, Body 7.8x4.4mm, Pitch 0.65mm, Thermal Pad 4.205X2.005mm, IPC High Density)
footprint TI-PWP24-4210X2010TP_M (SOP, 24-Leads, Body 7.8x4.4mm, Pitch 0.65mm, Thermal Pad 4.205X2.005mm, IPC Low Density)
part A pins: 2 VIN1 (power) "Input voltage of regulator 1", 3 VIN1 (power) "Input voltage of regulator 1", 4 NC "No connection", 5 ~{MR2} (in) "Manual reset input 2, active low, pulled up internally", 6 ~{MR1} (in) "Manual reset input 1, active low, pulled up internally", 7 ~{EN} (in) "Active low enable", 8 SEQ (in) "Power-up sequence control: SEQ = High, VOUT2 powers up first; SEQ = Low, VOUT1 powers up first. SEQ terminal pulled up internally.", 10 VIN2 (power) "Input voltage of regulator 2", 11 VIN2 (power) "Input voltage of regulator 2", 14 VOUT2 (power) "Output voltage of regulator 2", 15 VOUT2 (power) "Output voltage of regulator 2", 16 VSENSE2 (in) "Regulator 2 output voltage sense", 17 NC "No connection", 18 ~{RESET} (hiz) "Open drain output, SVS (power-on reset) signal, active low", 19 PG1 (hiz) "Open drain output, low when VOUT1 voltage is less than 95% of the nominal regulated voltage", 20 NC "No connection", 21 VSENSE1 (in) "Regulator 1 output voltage sense", 22 VOUT1 (power) "Output voltage of regulator 1", 23 VOUT1 (power) "Output voltage of regulator 1"
part B pins: 1 GND/HEATSINK (power) "Ground/heatsink", 9 GND (power) "Regulator ground", 12 GND/HEATSINK (power) "Ground/heatsink", 13 GND/HEATSINK (power) "Ground/heatsink", 24 GND/HEATSINK (power) "Ground/heatsink", 25 EP "Exposed Thermal Pad"

## TPS70358PWPRG4
designator U?
Dual Output LDO, 1 A, Fixed 3.3, 2.5 V Output, 2.7 to 6 V Input, 24-pin HTSSOP (PWP), -40 to 125 degC, Green (RoHS & no Sb/Br); Manufacturer: Texas Instruments; PartNumber: TPS70358PWPRG4; Iout(Max)(A): 1; Iout2(A): 2; Iq(Typ)(mA): 0.18; SubFamily: Dual Channel LDO; Vdo(Typ)(mV): 160; Vin(Max)(V): 6; Vin(Min)(V): 2.7; Vout(Max)(V): 3.3; Vout2(Max)(V): 2.5; DatasheetVersion: SLVS285H; PackageVersion: 4073225-5/I; PackageReference: PWP24-4210X2010TP; PackageDescription: 24-Pin Plastic Small Outline, Body 4.4 x 7.8 mm, Pitch 0.65 mm; Supplier 1: Digi-Key; Supplier Part Number 1: TPS70358PWPRG4-ND; Supplier 2: Mouser; Supplier Part Number 2: 595-TPS70358PWPRG4; Eco-Plan: Green (RoHS & no Sb/Br); Fixed Output Options(V): 3.3, 2.5; Vout(Min)(V): 3.3; Vout2(Min)(V): 2.5; Mounting Technology: Surface Mount; Code_JEDEC: MO-153; ComponentLink1Description: Manufacturer URL; ComponentLink1URL: http://www.ti.com/; ComponentLink2Description: Datasheet; ComponentLink2URL: http://www.ti.com/general/docs/lit/getliterature.tsp?genericPartNumber=TPS70358&fileType=pdf; ComponentLink3Description: Package Specification; ComponentLink3URL: http://www.ti.com/litv/pdf/mpds372
footprint TI-PWP24-4210X2010TP_N (SOP, 24-Leads, Body 7.8x4.4mm, Pitch 0.65mm, Thermal Pad 4.205X2.005mm, IPC Medium Density)
footprint TI-PWP24-4210X2010TP_L (SOP, 24-Leads, Body 7.8x4.4mm, Pitch 0.65mm, Thermal Pad 4.205X2.005mm, IPC High Density)
footprint TI-PWP24-4210X2010TP_M (SOP, 24-Leads, Body 7.8x4.4mm, Pitch 0.65mm, Thermal Pad 4.205X2.005mm, IPC Low Density)
part A pins: 2 VIN1 (power) "Input voltage of regulator 1", 3 VIN1 (power) "Input voltage of regulator 1", 4 NC "No connection", 5 ~{MR2} (in) "Manual reset input 2, active low, pulled up internally", 6 ~{MR1} (in) "Manual reset input 1, active low, pulled up internally", 7 ~{EN} (in) "Active low enable", 8 SEQ (in) "Power-up sequence control: SEQ = High, VOUT2 powers up first; SEQ = Low, VOUT1 powers up first. SEQ terminal pulled up internally.", 10 VIN2 (power) "Input voltage of regulator 2", 11 VIN2 (power) "Input voltage of regulator 2", 14 VOUT2 (power) "Output voltage of regulator 2", 15 VOUT2 (power) "Output voltage of regulator 2", 16 VSENSE2 (in) "Regulator 2 output voltage sense", 17 NC "No connection", 18 ~{RESET} (hiz) "Open drain output, SVS (power-on reset) signal, active low", 19 PG1 (hiz) "Open drain output, low when VOUT1 voltage is less than 95% of the nominal regulated voltage", 20 NC "No connection", 21 VSENSE1 (in) "Regulator 1 output voltage sense", 22 VOUT1 (power) "Output voltage of regulator 1", 23 VOUT1 (power) "Output voltage of regulator 1"
part B pins: 1 GND/HEATSINK (power) "Ground/heatsink", 9 GND (power) "Regulator ground", 12 GND/HEATSINK (power) "Ground/heatsink", 13 GND/HEATSINK (power) "Ground/heatsink", 24 GND/HEATSINK (power) "Ground/heatsink", 25 EP "Exposed Thermal Pad"

## TPS70402PWP
designator U?
Dual Output LDO, 1 A, 2.7 to 6 V Input, with Integrated SVS, 24-pin HTSSOP (PWP), -40 to 125 degC, Green (RoHS & no Sb/Br); Manufacturer: Texas Instruments; PartNumber: TPS70402PWP; Iout(Max)(A): 1; Iout2(A): 2; Iq(Typ)(mA): 0.18; SubFamily: Dual Channel LDO; Vdo(Typ)(mV): 160; Vin(Max)(V): 6; Vin(Min)(V): 2.7; Vout2(Max)(V): 5.5; Vout2(Min)(V): 1.2; DatasheetVersion: SLVS307F; PackageVersion: 4073225-5/I; PackageReference: PWP24-4210X2010TP; PackageDescription: 24-Pin Plastic Small Outline, Body 4.4 x 7.8 mm, Pitch 0.65 mm; Supplier 1: Digi-Key; Supplier Part Number 1: 296-8026-5-ND; Supplier 2: Newark; Supplier Part Number 2: 77C0770; Supplier 3: Mouser; Supplier Part Number 3: 595-TPS70402PWP; Eco-Plan: Green (RoHS & no Sb/Br); Mounting Technology: Surface Mount; Code_JEDEC: MO-153; ComponentLink1Description: Manufacturer URL; ComponentLink1URL: http://www.ti.com/; ComponentLink2Description: Datasheet; ComponentLink2URL: http://www.ti.com/general/docs/lit/getliterature.tsp?genericPartNumber=TPS70402&fileType=pdf; ComponentLink3Description: Package Specification; ComponentLink3URL: http://www.ti.com/litv/pdf/mpds372
footprint TI-PWP24-4210X2010TP_N (SOP, 24-Leads, Body 7.8x4.4mm, Pitch 0.65mm, Thermal Pad 4.205X2.005mm, IPC Medium Density)
footprint TI-PWP24-4210X2010TP_L (SOP, 24-Leads, Body 7.8x4.4mm, Pitch 0.65mm, Thermal Pad 4.205X2.005mm, IPC High Density)
footprint TI-PWP24-4210X2010TP_M (SOP, 24-Leads, Body 7.8x4.4mm, Pitch 0.65mm, Thermal Pad 4.205X2.005mm, IPC Low Density)
part A pins: 2 VIN1 (power) "Input voltage of regulator 1", 3 VIN1 (power) "Input voltage of regulator 1", 4 NC "No connection", 5 ~{MR} (in) "Manual reset input, active low, pulled up internally", 6 ~{EN1} (in) "Active low enable for VOUT1", 7 ~{EN2} (in) "Active low enable for VOUT2", 8 ~{RESET} (hiz) "Open drain output, SVS (power-on reset) signal, active low", 10 VIN2 (power) "Input voltage of regulator 2", 11 VIN2 (power) "Input voltage of regulator 2", 14 VOUT2 (power) "Output voltage of regulator 2", 15 VOUT2 (power) "Output voltage of regulator 2", 16 FB2 (in) "Regulator 2 feedback for adjustable", 17 NC "No connection", 18 PG2 (hiz) "Open drain output, low when VOUT2 voltage is less than 95% of the nominal regulated voltage", 19 PG1 (hiz) "Open drain output, low when VOUT1 voltage is less than 95% of the nominal regulated voltage", 20 NC "No connection", 21 FB1 (in) "Regulator 1 feedback for adjustable", 22 VOUT1 (power) "Output voltage of regulator 1", 23 VOUT1 (power) "Output voltage of regulator 1"
part B pins: 1 GND/HEATSINK (power) "Ground/heatsink", 9 GND (power) "Ground", 12 GND/HEATSINK (power) "Ground/heatsink", 13 GND/HEATSINK (power) "Ground/heatsink", 24 GND/HEATSINK (power) "Ground/heatsink", 25 EP "Exposed Thermal Pad"

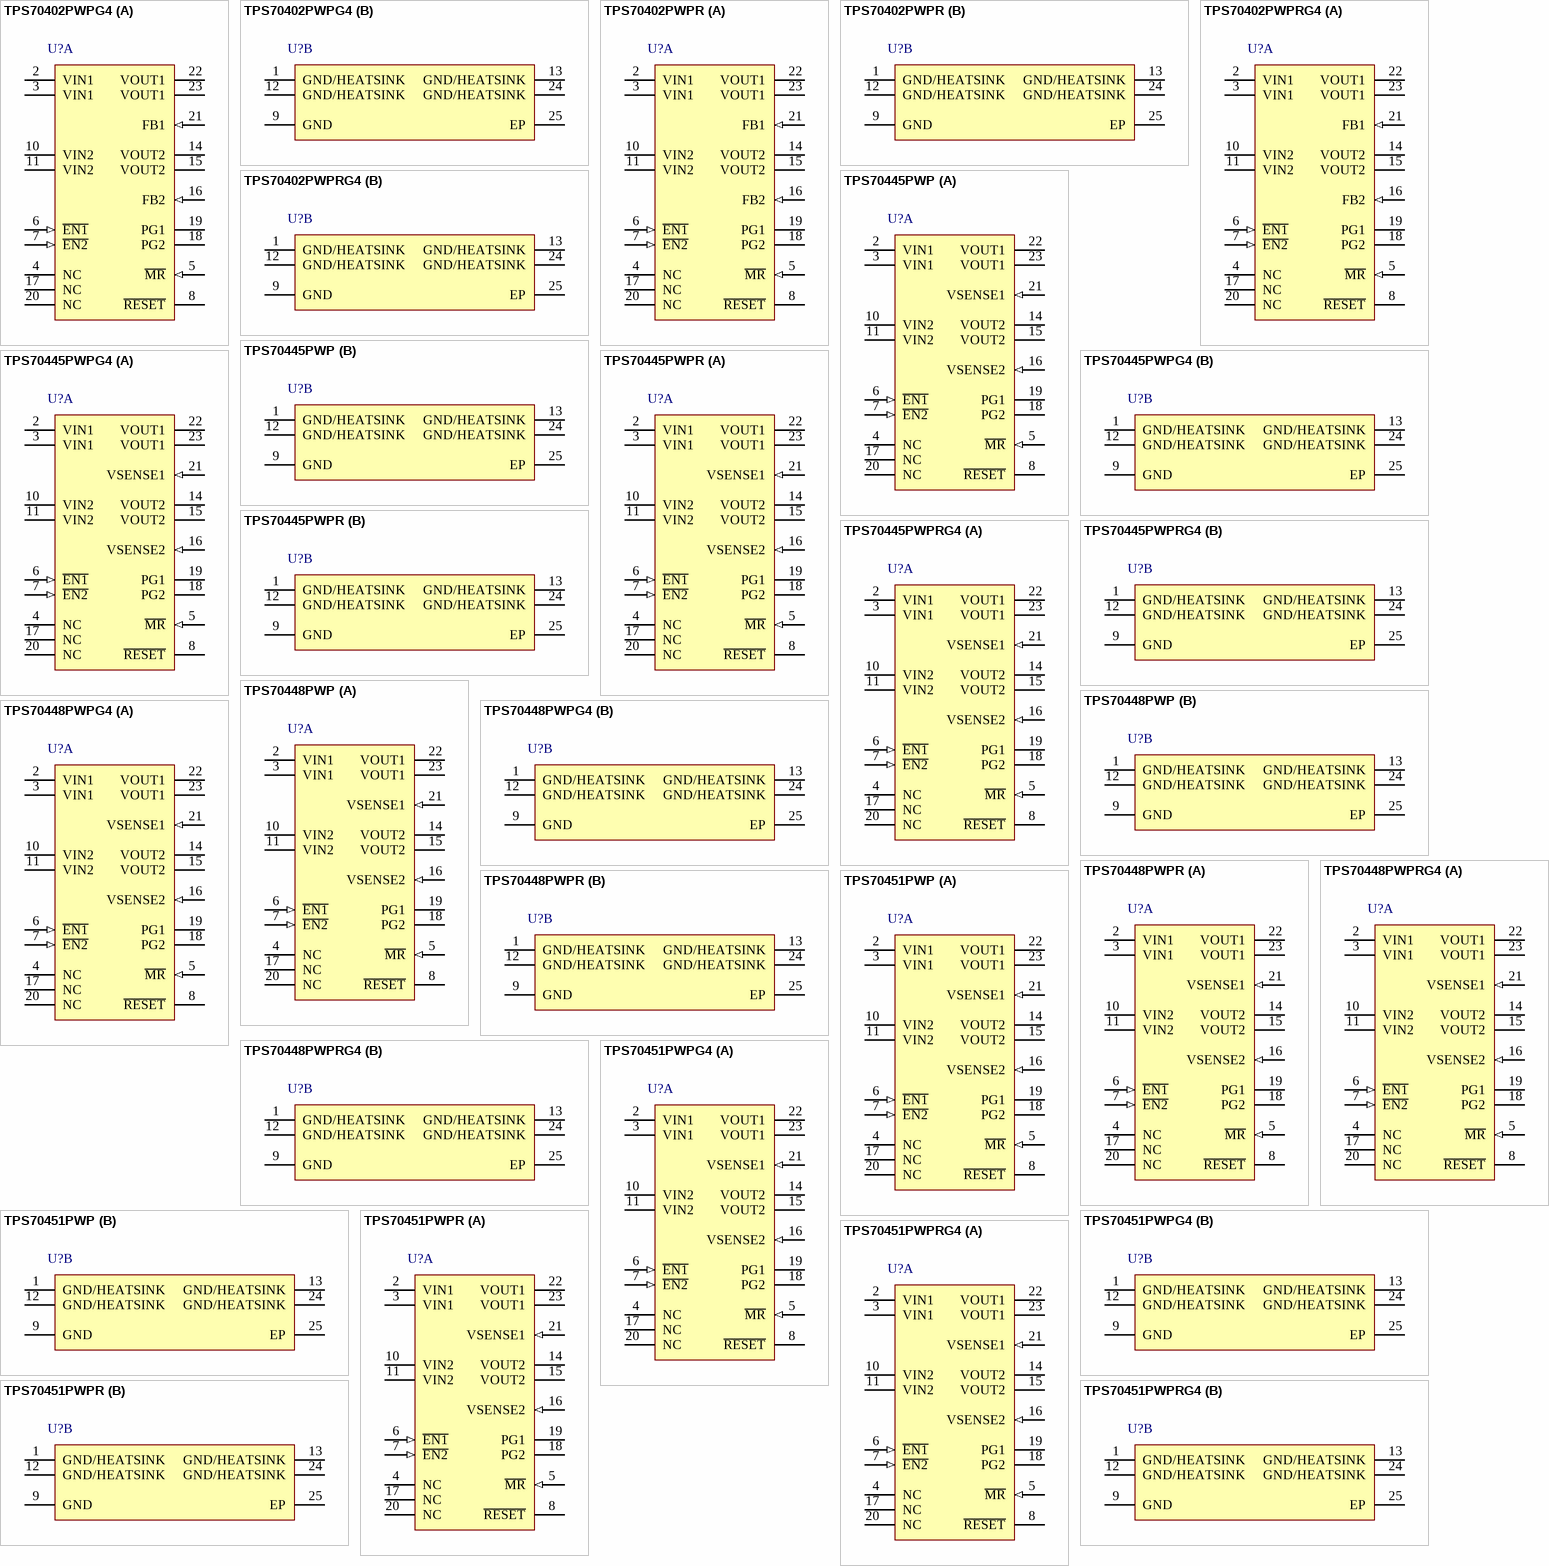
[diagram p7: symbols TPS70402PWPG4 to TPS70451PWPRG4]